# Altium schematic symbol library 3568.SchLib: 1 symbol
Pins are listed as number, name and electrical type; pins without a type are passive.

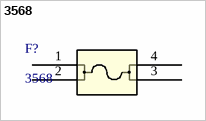
[diagram p0: symbol 3568]

## 3568
designator F?
Description; Manufacturer_Name: Keystone Electronics; Copyright: Copyright (C) 2026 Ultra Librarian. All rights reserved.; Manufacturer_Part_Number: 3568; RefDes: RefDes; Type: Type
footprint 3568_KEY
pins: 1, 2, 3, 4